# Altium schematic symbol library TDK_Capacitors.SchLib: 7 symbols
Pins are listed as number, name and electrical type; pins without a type are passive.

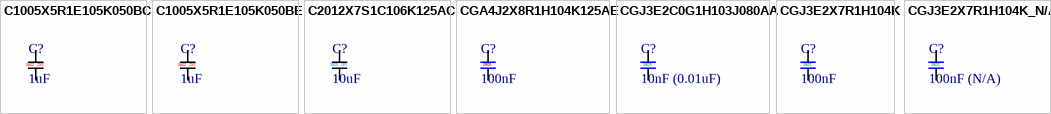
[diagram p0: symbols C1005X5R1E105K050BC to CGJ3E2X7R1H104K_N/A]

## C1005X5R1E105K050BC
designator C?, comment 1uF
Multilayer Ceramic Capacitors MLCC - SMD/SMT 0402 25V 1uF X5R 10% T: 0.5mm; Manufacturer: TDK; Manufacturer Part Number: C1005X5R1E105K050BC; Type: Multilayer Ceramic Chip Capacitor; Voltage Rating DC: 25 VDC; Capacitance - nF: 1000 nF; Product Status: Not Recommended for New Designs; Supplier 1: Mouser; RoHS: RoHS Compliant; Category: Multilayer Ceramic Capacitors MLCC - SMD/SMT; Stock 1: 6906; Pricing 1: 1=0.201, 10=0.136, 100=0.054, 500=0.045, 1000=0.037, 2500=0.031, 10000=0.027 (USD); Capacitance: 1 uF; Height: 0.5 mm; Length: 1 mm; Package / Case: 0402 (1005 metric); Packaging: Cut Tape; Product: General Type MLCCs; Series: C; Termination Style: SMD/SMT; Tolerance: 10 %; Width: 0.5 mm; Brand: TDK; Case Code - in: 0402; Case Code - mm: 1005; Dielectric: X5R; Maximum Operating Temperature: + 85 C; Minimum Operating Temperature: - 55 C; Standard Pack Qty: 10000; RoHS - Mouser: Y; Minimum Order Quantity: 1; Reeling: True; ComponentLink1URL: https://www.mouser.com/ds/2/400/lcc_commercial_general_en-837201.pdf; ComponentLink1Description: https://www.mouser.com/ds/2/400/lcc_commercial_general_en-837201.pdf
footprint TDK 0402 C (Minimal)
pins: 1, 2
text: 0402 | 25V

## C1005X5R1E105K050BE
designator C?, comment 1uF
Multilayer Ceramic Capacitors MLCC - SMD/SMT 0402 25V 1uF 10%; Manufacturer: TDK; Manufacturer Part Number: C1005X5R1E105K050BE; Supplier 1: Mouser; Stock 1: 0
footprint GJM 0402 C (IPC Medium Density)
pins: 1, 2
text: 0402 | 25V

## C2012X7S1C106K125AC
designator C?, comment 10uF
Manufacturer: TDK; Manufacturer Part Number: C2012X7S1C106K125AC; Supplier 1: Mouser; Stock 1: 5410; Pricing 1: 1=0.7, 10=0.4, 50=0.4, 100=0.27, 1000=0.226, 10000=0.138 (USD)
footprint 0805 CGA Series (Chip Capacitor, Body 2.0x1.2mm, EIA 0805, IPC Medium Density)
pins: 1, 2
text: 0805 | 16V

## CGA4J2X8R1H104K125AE
designator C?, comment 100nF
Multilayer Ceramic Capacitors MLCC - SMD/SMT 0805 0.1uF 50volts X8R 10% Soft Term; Manufacturer: TDK; Manufacturer Part Number: CGA4J2X8R1H104K125AE; Type: AEC-Q200; Voltage Rating DC: 50 VDC; Capacitance - pF: 100000 pF; Class: Class 2; Supplier 1: Mouser; RoHS: RoHS Compliant; Category: Multilayer Ceramic Capacitors MLCC - SMD/SMT; Stock 1: 75080; Pricing 1: 1=0.271, 10=0.224, 100=0.084, 500=0.074, 1000=0.065, 2000=0.051, 10000=0.046, 24000=0.045, 50000=0.039 (USD); Capacitance: 0.1 uF; Height: 1.25 mm; Length: 2 mm; Package / Case: 0805 (2012 metric); Packaging: Cut Tape; Product: Automotive MLCCs; Series: CGA; Termination Style: SMD/SMT; Tolerance: 10 %; Width: 1.2 mm; Brand: TDK; Capacitance - nF: 100 nF; Case Code - in: 0805; Case Code - mm: 2012; Dielectric: X8R; Maximum Operating Temperature: + 150 C; Minimum Operating Temperature: - 55 C; Qualification: AEC-Q200; Standard Pack Qty: 2000; Termination: Flexible (Soft); RoHS - Mouser: Y; Minimum Order Quantity: 1; Reeling: True; ComponentLink1URL: http://www.mouser.com/ds/2/400/lcc_automotive_general_en-843974.pdf; ComponentLink1Description: http://www.mouser.com/ds/2/400/lcc_automotive_general_en-843974.pdf
footprint 0805 CGA Series (Chip Capacitor, Body 2.0x1.2mm, EIA 0805, IPC Medium Density)
pins: 1, 2

## CGJ3E2C0G1H103J080AA
designator C?, comment 10nF (0.01uF)
Multilayer Ceramic Capacitors MLCC - SMD/SMT 0603 0.01uF 50volts C0G +/-5%; Manufacturer: TDK; Manufacturer Part Number: CGJ3E2C0G1H103J080AA; Tolerance: 5 %; Type: AEC-Q200; Voltage Rating DC: 50 VDC; Capacitance - pF: 10000 pF; Class: Class 1; Dielectric: C0G (NP0); Supplier 1: Mouser; RoHS: RoHS Compliant; Category: Multilayer Ceramic Capacitors MLCC - SMD/SMT; Stock 1: 6758; Pricing 1: 1=0.481, 10=0.464, 100=0.365, 500=0.295, 1000=0.243, 4000=0.100, 8000=0.091, 24000=0.089 (USD); Capacitance: 0.01 uF; Height: 0.8 mm; Length: 1.6 mm; Package / Case: 0603 (1608 metric); Packaging: Cut Tape; Product: High Reliability MLCCs; Series: CGJ; Termination Style: SMD/SMT; Width: 0.8 mm; Brand: TDK; Capacitance - nF: 10 nF; Case Code - in: 0603; Case Code - mm: 1608; Maximum Operating Temperature: + 125 C; Minimum Operating Temperature: - 55 C; Qualification: AEC-Q200; Standard Pack Qty: 4000; Termination: -; RoHS - Mouser: Y; Minimum Order Quantity: 1; Reeling: True; ComponentLink1URL: http://www.mouser.com/ds/2/400/lcc_highreliability_general_en-520187.pdf; ComponentLink1Description: http://www.mouser.com/ds/2/400/lcc_highreliability_general_en-520187.pdf
footprint 0603 CGJ Series (Chip Capacitor, 2-Leads, Body 1.6x0.8mm, IPC Medium Density)
pins: 1, 2

## CGJ3E2X7R1H104K
designator C?, comment 100nF
Multilayer Ceramic Capacitors MLCC - SMD/SMT 0603 0.1uF 50volts X7R +/-10%; Manufacturer: TDK; Manufacturer Part Number: CGJ3E2X7R1H104K; Tolerance: 10%; Voltage Rating: 50V; Supplier 1: Avnet; Stock 1: 4000; Pricing 1: 1=0.0603, 25=0.0517, 50=0.0442, 100=0.0402, 250=0.0329, 500=0.0307, 1000=0.0297 (USD); Case/Package: 0603; Case Code (Imperial): 0603; Case Code (Metric): 1608; Min Operating Temperature: -55°C; Max Operating Temperature: 125°C; Capacitance: 100nF; Packaging: Tape and Reel; Termination: SMD/SMT; ComponentLink1URL: http://www.mouser.com/pdfdocs/TDKExtendedLifeCapacitors.pdf; ComponentLink1Description: http://www.mouser.com/pdfdocs/TDKExtendedLifeCapacitors.pdf
footprint 0603 CGJ Series (Chip Capacitor, 2-Leads, Body 1.6x0.8mm, IPC Medium Density)
pins: 1, 2

## CGJ3E2X7R1H104K_N/A
designator C?, comment 100nF (N/A)  (no BOM)
Multilayer Ceramic Capacitors MLCC - SMD/SMT 0603 0.1uF 50volts X7R +/-10%; Manufacturer: TDK; Manufacturer Part Number: CGJ3E2X7R1H104K; Tolerance: 10%; Voltage Rating: 50V; Supplier 1: Avnet; Stock 1: 4000; Pricing 1: 1=0.0603, 25=0.0517, 50=0.0442, 100=0.0402, 250=0.0329, 500=0.0307, 1000=0.0297 (USD); Case/Package: 0603; Case Code (Imperial): 0603; Case Code (Metric): 1608; Min Operating Temperature: -55°C; Max Operating Temperature: 125°C; Capacitance: 100nF; Packaging: Tape and Reel; Termination: SMD/SMT; ComponentLink1URL: http://www.mouser.com/pdfdocs/TDKExtendedLifeCapacitors.pdf; ComponentLink1Description: http://www.mouser.com/pdfdocs/TDKExtendedLifeCapacitors.pdf
footprint 0603 CGJ Series (Chip Capacitor, 2-Leads, Body 1.6x0.8mm, IPC Medium Density)
pins: 1, 2